# EAGLE library part MX315A (library cml-micro)
CTCSS ENCODER
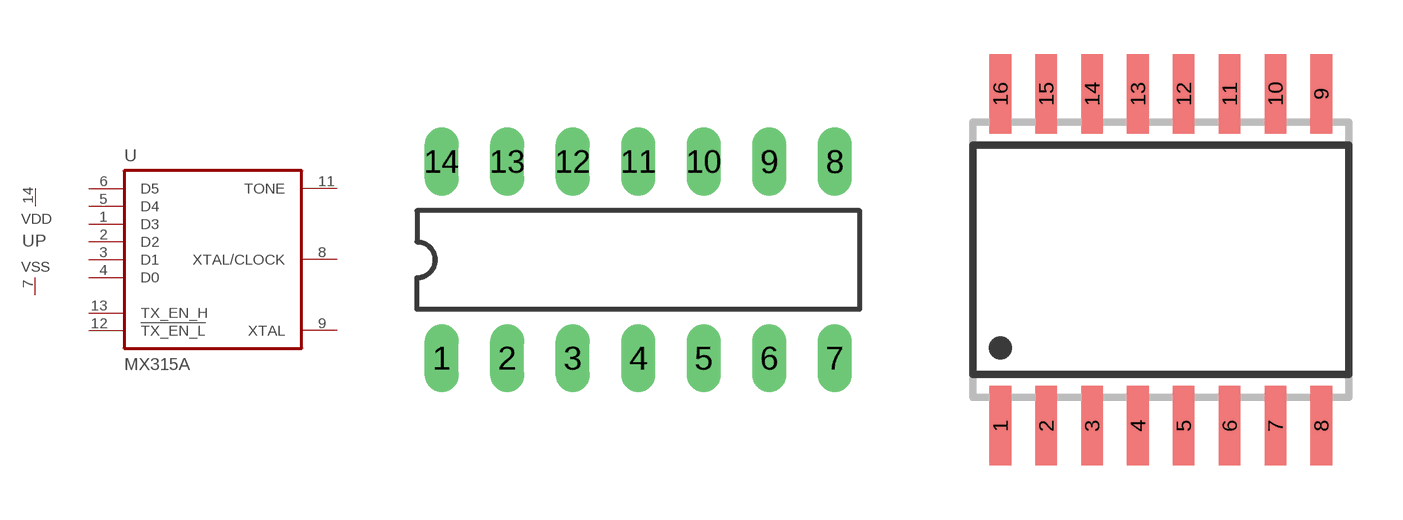
[diagram p0: symbol with the pads of DIL14; footprints DIL14, SO16W]

Designator prefix U; gates A=MX315 P=VDDVSS

## MX315AJ  [DIL14]
1  A:D3  in
2  A:D2  in
3  A:D1  in
4  A:D0  in
5  A:D4  in
6  A:D5  in
7  P:VSS  pwr
8  A:XTAL/CLOCK  in
9  A:XTAL  out
11  A:TONE  in
12  A:!TX_EN_L!  in
13  A:TX_EN_H  in
14  P:VDD  pwr

## MX315ADW  [SO16W]
1  A:D3  in
2  A:D2  in
3  A:D1  in
4  A:D0  in
5  A:D4  in
6  A:D5  in
7  P:VSS  pwr
8  A:XTAL/CLOCK  in
9  A:XTAL  out
13  A:TONE  in
14  A:!TX_EN_L!  in
15  A:TX_EN_H  in
16  P:VDD  pwr

## Footprint DIL14 (pad centres in mm)
Dual In Line Package
drill 0.813 long: 1 -7.62,-3.81; 2 -5.08,-3.81; 3 -2.54,-3.81; 4 0,-3.81; 5 2.54,-3.81; 6 5.08,-3.81; 7 7.62,-3.81; 8 7.62,3.81; 9 5.08,3.81; 10 2.54,3.81; 11 0,3.81; 12 -2.54,3.81; 13 -5.08,3.81; 14 -7.62,3.81

## Footprint SO16W (pad centres in mm)
SMALL OUTLINE INTEGRATED CIRCUIT wide body 7.5 mm/JEDEC MS-013AA
smd 0.6 x 2.2: 1 -4.445,-4.6; 2 -3.175,-4.6; 3 -1.905,-4.6; 4 -0.635,-4.6; 5 0.635,-4.6; 6 1.905,-4.6; 7 3.175,-4.6; 8 4.445,-4.6; 9 4.445,4.6; 10 3.175,4.6; 11 1.905,4.6; 12 0.635,4.6; 13 -0.635,4.6; 14 -1.905,4.6; 15 -3.175,4.6; 16 -4.445,4.6